# Altium footprint library 4-SMD.PcbLib: 1 footprints
Each footprint in its own frame and in the unit in brackets; x right, y up, seen from the top. Pads: shape width x height; smd on the part's side, far side on the other; paste and mask are expansions set on the pad; w line width, h text height; cw(c..) or ccw(c..) is an arc to the next point about the centre after c.
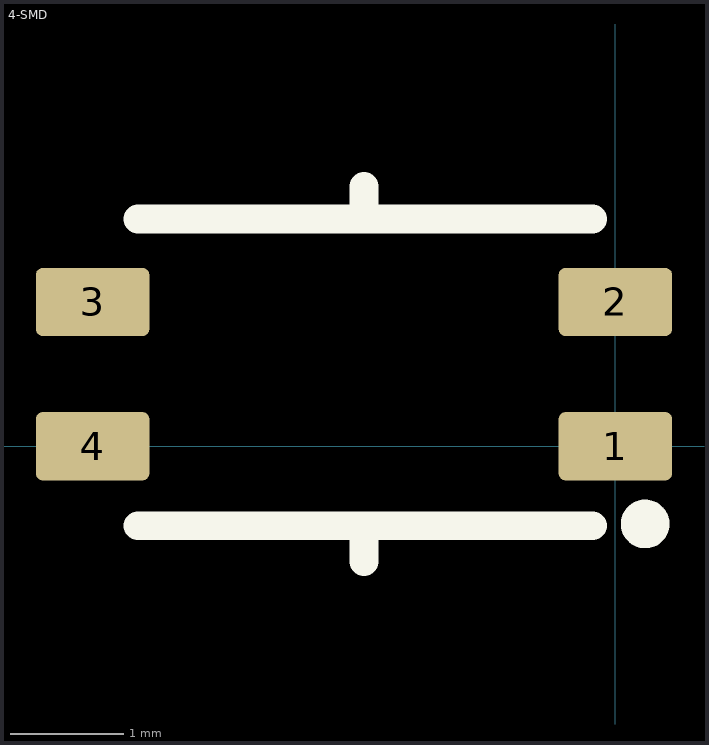
[diagram p0: the footprint, top view; thin cyan lines are the x and y axes]

## 4-SMD [mm]
pads (4):
  rrect20% 1x0.6 smd: 1(0,0) 2(0,1.27) 3(-4.6,1.27) 4(-4.6,0)
Top Overlay:
  circle w0.254: c0.262,-0.684 r0.087
  lines w0.254: -4.2,-0.7 -0.2,-0.7 ; -4.2,2 -0.2,2 ; -2.212,-1.015 -2.212,-0.7 ; -2.212,2 -2.212,2.287